# Altium schematic symbol library CAP - GCM21BC72A105KE36L.SchLib: 1 symbol
Pins are listed as number, name and electrical type; pins without a type are passive.

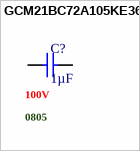
[diagram p0: symbol GCM21BC72A105KE36L]

## GCM21BC72A105KE36L
designator C?, comment 1µF  .Case/Package: 0805  .Voltage Rating (DC): 100V
Ceramic Capacitor, Ceramic, 100V, 10% +Tol, 10% -Tol, X7S, 22% TC, 1uF, Surface Mount, 0805; Manufacturer: Murata; Manufacturer Part Number: GCM21BC72A105KE36L; Manufacturer Lifecycle Status: IN PRODUCTION; Supplier: Mouser; Supplier Part Number: 81-GCM21BC72A105KE6L; RoHS: Compliant; Category: Ceramic Capacitors; Stock: 5295; Pricing: 1=0,42, 10=0,188, 50=0,188, 100=0,164, 1000=0,123, 10000=0,085 (USD); Value: 1µF; Case/Package: 0805; Dielectric Material: Ceramic; Height: 1.25mm; Length: 2mm; Lifecycle Status: Production; Material: Ceramic; Max Operating Temperature: 125°C; Min Operating Temperature: -55°C; Mounting Technology: Surface Mount; Number of Terminals: 2; REACH SVHC: Yes; Schedule B: 8532240020, 8532240020|8532240020, 8532240020|8532240020|8532240020, 8532240020|8532240020|8532240020|8532240020; Thickness: 1.25mm; Voltage Rating: 100V; Voltage Rating (DC): 100V; Width: 1.25mm; ComponentLink1URL: https://datasheet.octopart.com:443/GCM21BC72A105KE36L-Murata-datasheet-141268580.pdf?src-supplier=Ciiva; ComponentLink1Description: https://datasheet.octopart.com:443/GCM21BC72A105KE36L-Murata-datasheet-141268580.pdf?src-supplier=Ciiva; ComponentLink2URL: https://datasheet.octopart.com:443/GCM21BC72A105KE36L-Murata-datasheet-140660122.pdf?src-supplier=Ciiva; ComponentLink2Description: https://datasheet.octopart.com:443/GCM21BC72A105KE36L-Murata-datasheet-140660122.pdf?src-supplier=Ciiva; ComponentLink3URL: https://datasheet.octopart.com:443/GCM21BC72A105KE36L-Murata-datasheet-138719526.pdf?src-supplier=Ciiva; ComponentLink3Description: https://datasheet.octopart.com:443/GCM21BC72A105KE36L-Murata-datasheet-138719526.pdf?src-supplier=Ciiva; ComponentLink4URL: https://datasheet.octopart.com:443/GCM21BC72A105KE36L-Murata-datasheet-12511495.pdf?src-supplier=TME; ComponentLink4Description: https://datasheet.octopart.com:443/GCM21BC72A105KE36L-Murata-datasheet-12511495.pdf?src-supplier=TME; ComponentLink5URL: http://sigma.octopart.com:80/reach_statement/Murata-company-16.pdf?src-supplier=Compliance+Statements; ComponentLink5Description: http://sigma.octopart.com:80/reach_statement/Murata-company-16.pdf?src-supplier=Compliance+Statements; Supplier 1: Mouser; Supplier Part Number 1: 81-GCM21BC72A105KE6L
footprint C0805 - MURATA (Chip Capacitor, 2-Leads, Body 2,00x1,25mm, IPC Medium Density)
pins: 1, 2